# EAGLE library part SWITCH_SLIDE_BIG (library bao05)
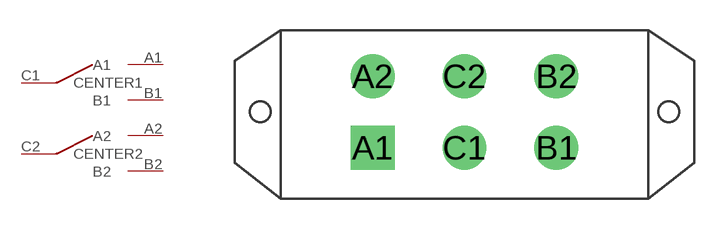
[diagram p3: symbol with the pads of SWITCH_SLIDE_BIG; footprint SWITCH_SLIDE_BIG]

Designator prefix -

## SWITCH_SLIDE_BIG  [SWITCH_SLIDE_BIG]
A1  A1
A2  A2
B1  B1
B2  B2
C1  CENTER1
C2  CENTER2

## Footprint SWITCH_SLIDE_BIG (pad centres in mm)
drill 0.8 pad 2.184 square: A1 -4.572,-4.318
drill 0.8 pad 2.184: A2 -4.572,-0.762; B1 4.572,-4.318; B2 4.572,-0.762; C1 0,-4.318; C2 0,-0.762